# Altium footprint library Smartstick_Quaternions.PcbLib: 6 footprints
Each footprint in its own frame and in the unit in brackets; x right, y up, seen from the top. Pads: shape width x height; smd on the part's side, far side on the other; paste and mask are expansions set on the pad; w line width, h text height; cw(c..) or ccw(c..) is an arc to the next point about the centre after c.
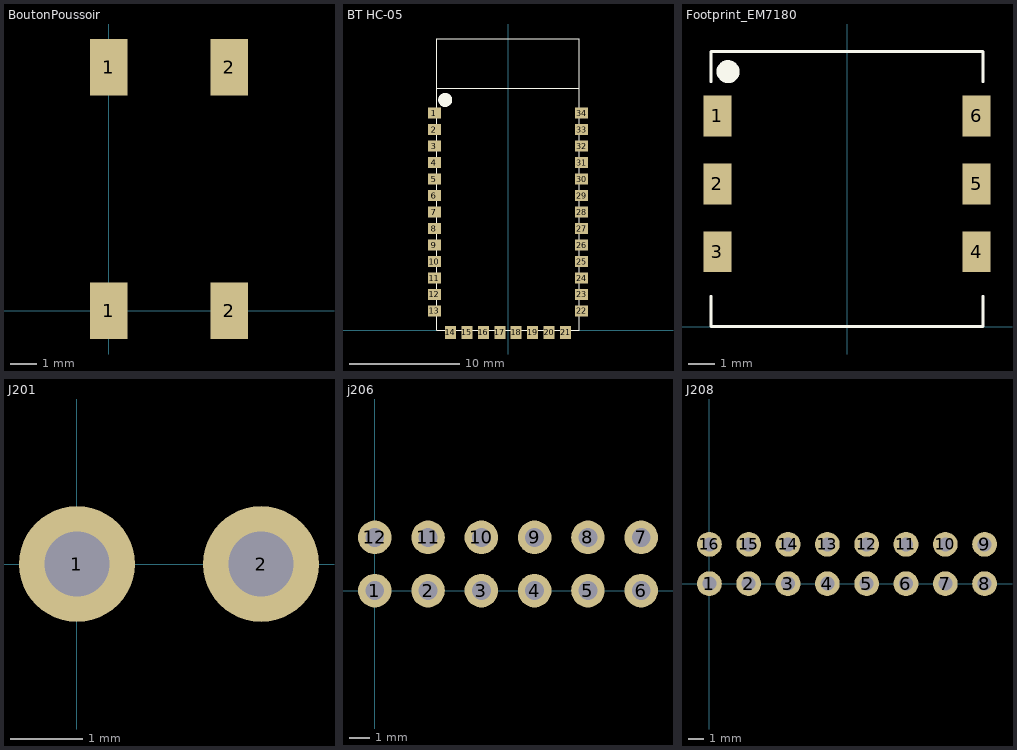
[diagram p0: the footprints below, top view; thin cyan lines are the x and y axes]

## BoutonPoussoir [mm]
pads (4):
  rect 1.4x2.1 smd: 1(0,0) 1(0,9.1) 2(4.5,0) 2(4.5,9.1)

## BT HC-05 [mm]
pads (34):
  rect 1.2x1 smd: 1(-6.7,19.75) 2(-6.7,18.25) 3(-6.7,16.75) 4(-6.7,15.25) 5(-6.7,13.75) 6(-6.7,12.25) 7(-6.7,10.75) 8(-6.7,9.25) 9(-6.7,7.75) 10(-6.7,6.25) 11(-6.7,4.75) 12(-6.7,3.25) 13(-6.7,1.75) 22(6.7,1.75) 23(6.7,3.25) 24(6.7,4.75) 25(6.7,6.25) 26(6.7,7.75) 27(6.7,9.25) 28(6.7,10.75) 29(6.7,12.25) 30(6.7,13.75) 31(6.7,15.25) 32(6.7,16.75) 33(6.7,18.25) 34(6.7,19.75)
  rect 1x1.2 smd: 14(-5.25,-0.2) 15(-3.75,-0.2) 16(-2.25,-0.2) 17(-0.75,-0.2) 18(0.75,-0.2) 19(2.25,-0.2) 20(3.75,-0.2) 21(5.25,-0.2)
Top Overlay:
  circle w0.7: c-5.715,20.955 r0.284
  lines w0.1: -6.5,22 6.5,22 ; -6.5,0 6.5,0 6.5,26.5 -6.5,26.5 -6.5,0

## Footprint_EM7180 [mm]
pads (6):
  rect 1.05x1.52 smd: 1(-4.845,7.87) 2(-4.845,5.33) 3(-4.845,2.79) 4(4.845,2.79) 5(4.845,5.33) 6(4.845,7.87)
Top Overlay:
  circle w0.5: c-4.445,9.525 r0.18
  lines w0.1: -5.08,1.136 -5.08,0 5.08,0 5.08,1.136 ; -5.08,9.144 -5.08,10.28 5.08,10.28 5.08,9.144

## J201 [mm]
pads (2):
  round 1.6 hole 0.9: 1(0,0) 2(2.54,0)

## j206 [mm]
pads (12):
  round 1.6 hole 0.9: 1(0,0) 2(2.54,0) 3(5.08,0) 4(7.62,0) 5(10.16,0) 6(12.7,0) 7(12.7,2.54) 8(10.16,2.54) 9(7.62,2.54) 10(5.08,2.54) 11(2.54,2.54) 12(0,2.54)

## J208 [mm]
pads (16):
  round 1.6 hole 0.9: 1(0,0) 2(2.54,0) 3(5.08,0) 4(7.62,0) 5(10.16,0) 6(12.7,0) 7(15.24,0) 8(17.78,0) 9(17.78,2.54) 10(15.24,2.54) 11(12.7,2.54) 12(10.16,2.54) 13(7.62,2.54) 14(5.08,2.54) 15(2.54,2.54) 16(0,2.54)